# Altium footprint library PT7M7811STBEX.PcbLib: 1 footprints
Each footprint in its own frame and in the unit in brackets; x right, y up, seen from the top. Pads: shape width x height; smd on the part's side, far side on the other; paste and mask are expansions set on the pad; w line width, h text height; cw(c..) or ccw(c..) is an arc to the next point about the centre after c.
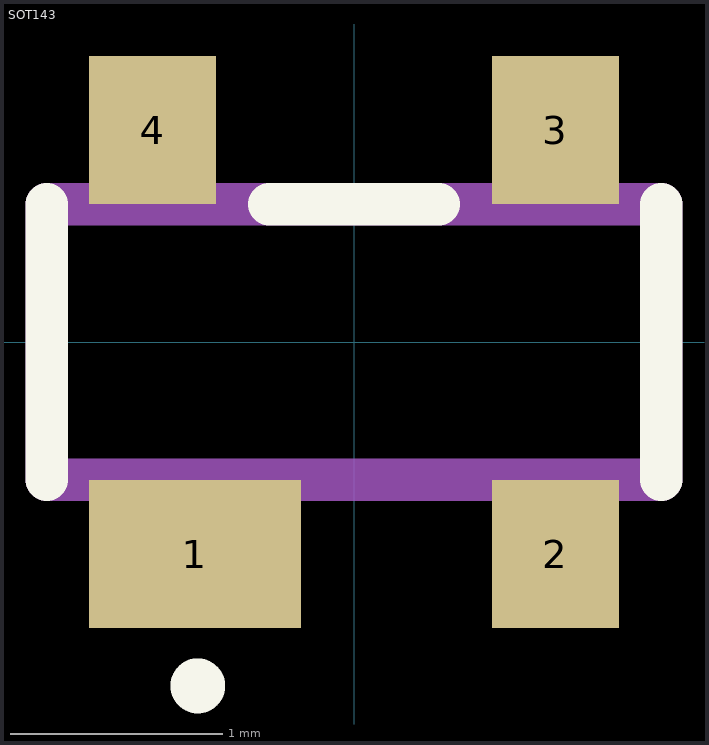
[diagram p0: the footprint, top view; thin cyan lines are the x and y axes]

## SOT143 [mm]
pads (4):
  rect 1x0.7 smd: 1(-0.75,-1)
  rect 0.6x0.7 smd: 2(0.95,-1) 3(0.95,1) 4(-0.95,1)
Top Overlay:
  circle w0.2: c-0.737,-1.622 r0.03
  lines w0.2: -1.45,-0.65 -1.45,0.65 ; -0.4,0.65 0.4,0.65 ; 1.45,-0.65 1.45,0.65
Mechanical 13:
  lines w0.2: -1.45,-0.65 1.45,-0.65 1.45,0.65 -1.45,0.65 -1.45,-0.65
3D body: height 0.64, standoff 0, extent -1.397,-0.635 1.397,0.635